# EAGLE library part BQ29200 (library RalimTek)
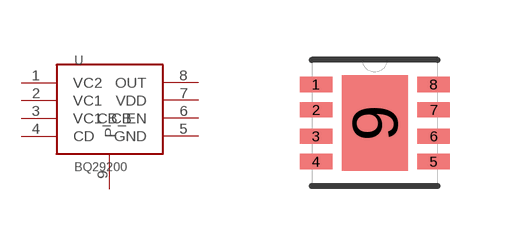
[diagram p6: symbol with the pads of SON65P300X300X100-9N; footprint SON65P300X300X100-9N]

Designator prefix -

## BQ29200  [SON65P300X300X100-9N]
1  VC2
2  VC1
3  VC1_CB
4  CD
5  GND
6  CB_EN
7  VDD
8  OUT
9  P

## Footprint SON65P300X300X100-9N (pad centres in mm)
smd 0.813 x 0.381: 1 -1.473,0.965; 2 -1.473,0.33; 3 -1.473,-0.33; 4 -1.473,-0.965; 5 1.473,-0.965; 6 1.473,-0.33; 7 1.473,0.33; 8 1.473,0.965
smd 1.651 x 2.388: 9 0,0